# Altium integrated library codecs.IntLib: 2 symbols
Pins are listed as number, name and electrical type; pins without a type are passive.

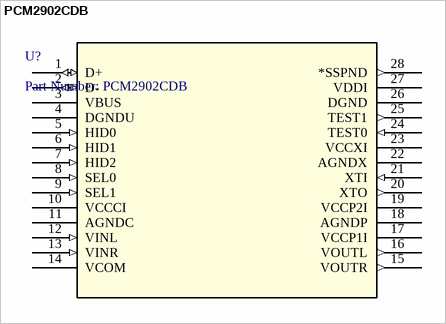
[diagram p0: symbol PCM2902CDB]

## PCM2902CDB
designator U?, comment Part Number: PCM2902CDB
Stereo Audio Codec with USB Interface, Single-Ended Analog and S/PDIF In/Out; Manufacturer: Texas Instruments; Built_By: EMA_UL_Team; Vendor: Texas Instruments; Manufacturer_Part_Number: PCM2902CDB; Copyright: Copyright (C) 2018 Accelerated Designs. All rights reserved; RefDes: RefDes; Type: DEV; Value: Value; ComponentLink1Description: Product Page; ComponentLink1URL: https://www.ti.com/product/PCM2902C
footprint SOP65P780X200-28N (SOP, 28-Leads, Body 10,20x5,30mm, Pitch 0,65mm, IPC Medium Density)
pins: 1 D+ (io), 2 D- (io), 3 VBUS (power), 4 DGNDU (power), 5 HID0 (in), 6 HID1 (in), 7 HID2 (in), 8 SEL0 (in), 9 SEL1 (in), 10 VCCCI (power), 11 AGNDC (power), 12 VINL (in), 13 VINR (in), 14 VCOM (power), 15 VOUTR (out), 16 VOUTL (out), 17 VCCP1I (power), 18 AGNDP (power), 19 VCCP2I (power), 20 XTO (out), 21 XTI (in), 22 AGNDX (power), 23 VCCXI (power), 24 TEST0 (in), 25 TEST1 (out), 26 DGND (power), 27 VDDI (power), 28 *SSPND (out)


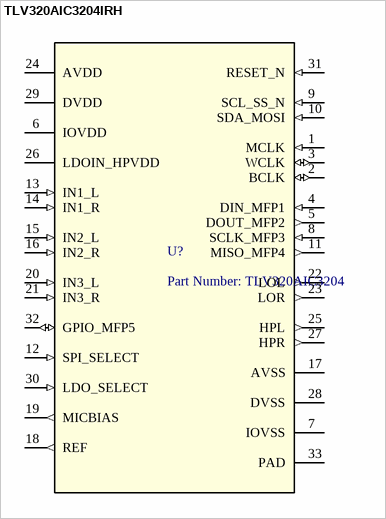
[diagram p1: symbol TLV320AIC3204IRH]

## TLV320AIC3204IRH
designator U?, comment Part Number: TLV320AIC3204
Very-Low-Power Stereo Audio CODEC With PowerTune™ Technology; PartNumber: TLV320AIC3204IRHBR; Manufacturer: Texas Instruments; RefDes: RefDes; TYPE: TYPE; Value: Value; ComponentLink1Description: Product Page; ComponentLink1URL: https://www.ti.com/product/TLV320AIC3204
footprint RHB32_3P45X3P45
pins: 1 MCLK (in), 2 BCLK (io), 3 WCLK (io), 4 DIN_MFP1 (in), 5 DOUT_MFP2 (out), 6 IOVDD (power), 7 IOVSS (power), 8 SCLK_MFP3 (in), 9 SCL_SS_N (in), 10 SDA_MOSI (in), 11 MISO_MFP4 (out), 12 SPI_SELECT (in), 13 IN1_L (in), 14 IN1_R (in), 15 IN2_L (in), 16 IN2_R (in), 17 AVSS (power), 18 REF (out), 19 MICBIAS (out), 20 IN3_L (in), 21 IN3_R (in), 22 LOL (out), 23 LOR (out), 24 AVDD (power), 25 HPL (out), 26 LDOIN_HPVDD (power), 27 HPR (out), 28 DVSS (power), 29 DVDD (power), 30 LDO_SELECT (in), 31 RESET_N (in), 32 GPIO_MFP5 (io), 33 PAD (power)